# Altium footprint library 29197.PcbLib: 67 footprints (part 3 of 5)
Each footprint in its own frame and in the unit in brackets; x right, y up, seen from the top. Pads: shape width x height; smd on the part's side, far side on the other; paste and mask are expansions set on the pad; w line width, h text height; cw(c..) or ccw(c..) is an arc to the next point about the centre after c.
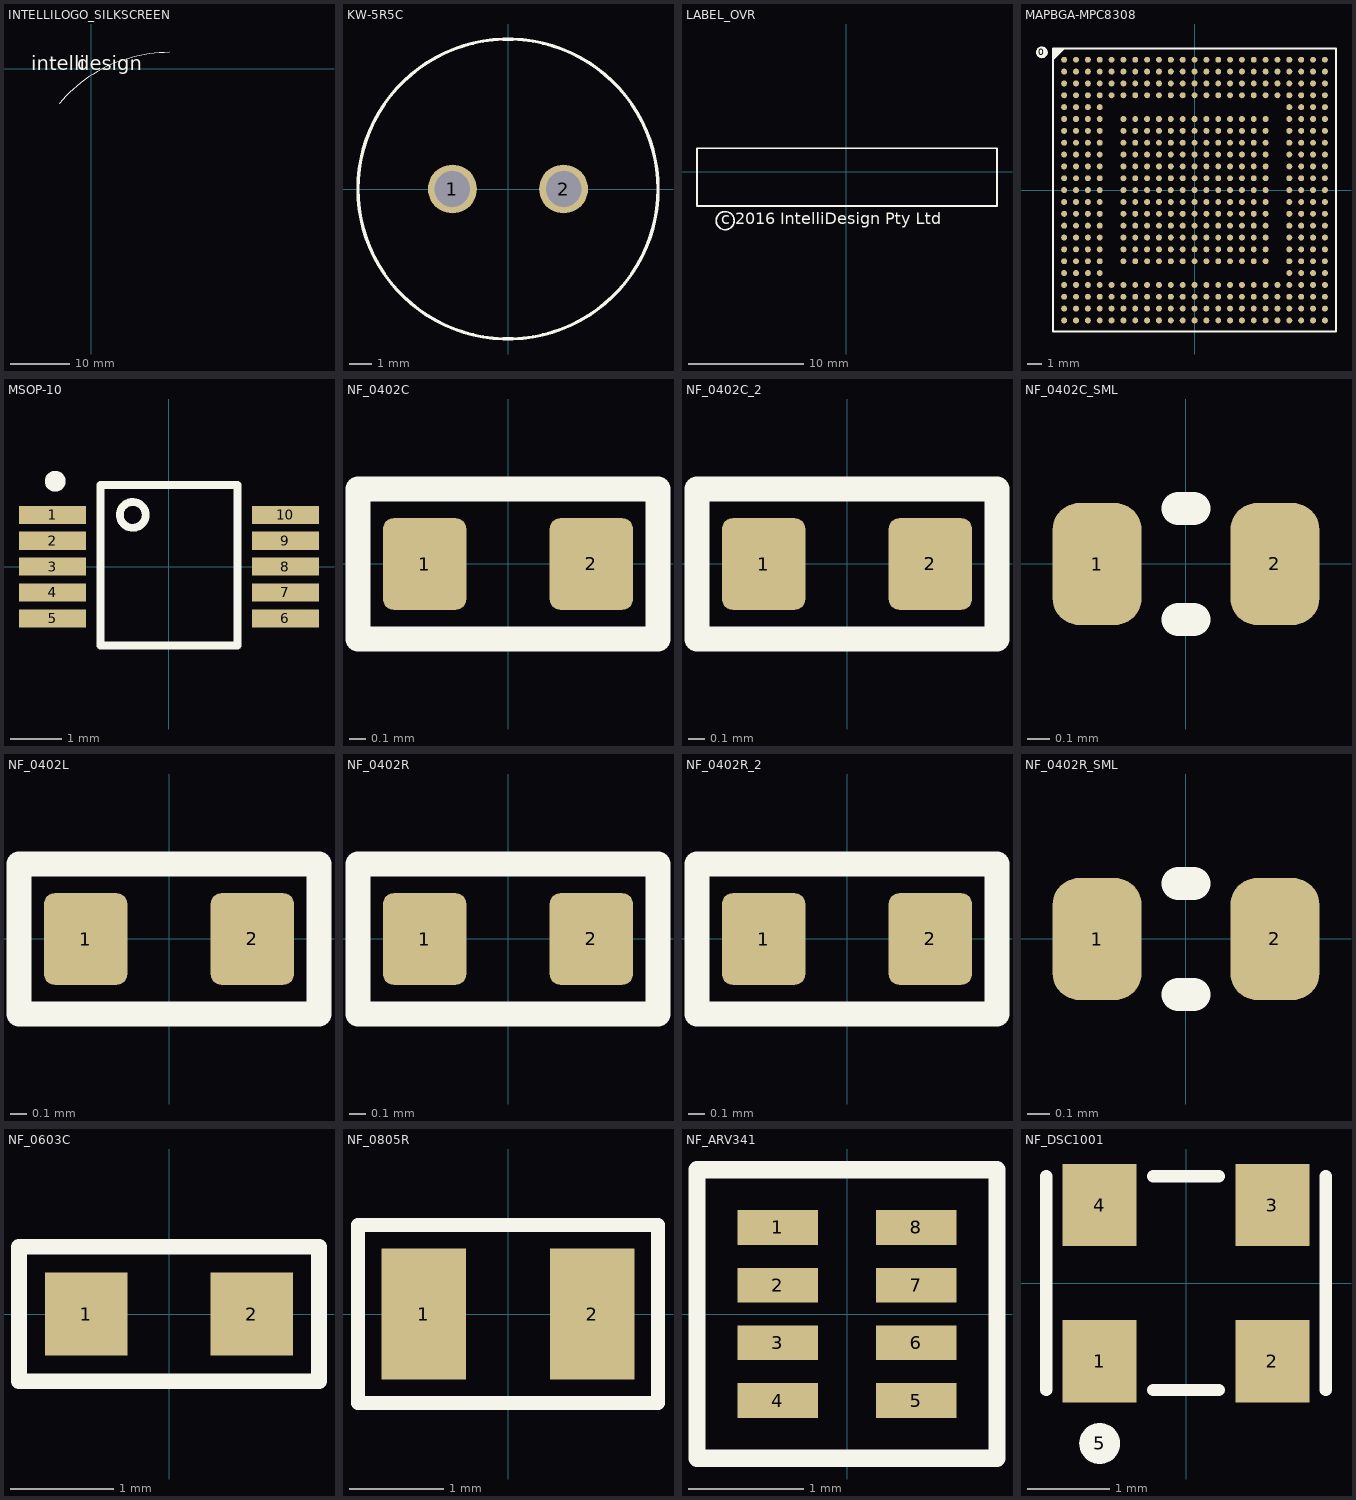
[diagram p2: the footprints below, top view; thin cyan lines are the x and y axes]

## INTELLILOGO_SILKSCREEN [mm]
height 0.6
Top Overlay:
  lines w0.2: -5.363,-5.869 cw(c13.022,-21.296) 13.022,2.704
  text "design" at -2.353,-1.121 h4.05
  text "intelli" at -10.05,-1.11 h4.05

## KW-5R5C [mm]
height 2.438
pads (2):
  round 2.2 hole 1.6: 1(-2.5,0) 2(2.5,0)
Top Overlay:
  circle w0.15: c0,0 r6.75
3D body: height 8.35, standoff 0.06, extent -6.697,-6.736 6.75,6.737
3D body: height 8.36, standoff 0.05, extent -5.953,-5.988 6,5.988
3D body: height 8.34, standoff 0.07, extent -5.178,-5.988 6.775,5.988
3D body: height 0, standoff -6.1, extent 1.855,-0.648 3.15,0.649
3D body: height 0, standoff -6.1, extent -3.145,-0.649 -1.85,0.649

## LABEL_OVR [mm] "Intellidesign label position (2015 copyright) on silkscreen"
height 0.25
Top Overlay:
  circle w0.15: c-10.487,-4.227 r0.784
  lines w0.15: -12.928,-2.952 13.072,-2.952 13.072,2.048 -12.928,2.048 -12.928,-2.952
  text "c 2016 IntelliDesign Pty Ltd" at -10.828,-4.552 h1
  text ".Comment" at -3.028,-1.452 h2

## MAPBGA-MPC8308 [mm]
height 2.438
pads (474):
  round 0.8 on Top Overlay paste-1 mask+0.5: 0(-10.3,9.3)
  round 0.4 smd mask+0.062: A1(-8.8,8.8) A2(-8,8.8) A3(-7.2,8.8) A4(-6.4,8.8) A5(-5.6,8.8) A6(-4.8,8.8) A7(-4,8.8) A8(-3.2,8.8) A9(-2.4,8.8) A10(-1.6,8.8) A11(-0.8,8.8) A12(0,8.8) A13(0.8,8.8) A14(1.6,8.8) A15(2.4,8.8) A16(3.2,8.8) A17(4,8.8) A18(4.8,8.8) A19(5.6,8.8) A20(6.4,8.8) A21(7.2,8.8) A22(8,8.8) A23(8.8,8.8) AA1(-8.8,-7.2) AA2(-8,-7.2) AA3(-7.2,-7.2) AA4(-6.4,-7.2) AA5(-5.6,-7.2) AA6(-4.8,-7.2) AA7(-4,-7.2) AA8(-3.2,-7.2) AA9(-2.4,-7.2) AA10(-1.6,-7.2) AA11(-0.8,-7.2) AA12(0,-7.2) AA13(0.8,-7.2) AA14(1.6,-7.2) AA15(2.4,-7.2) AA16(3.2,-7.2) AA17(4,-7.2) AA18(4.8,-7.2) AA19(5.6,-7.2) AA20(6.4,-7.2) AA21(7.2,-7.2) AA22(8,-7.2) AA23(8.8,-7.2) AB1(-8.8,-8) AB2(-8,-8) AB3(-7.2,-8) AB4(-6.4,-8) AB5(-5.6,-8) AB6(-4.8,-8) AB7(-4,-8) AB8(-3.2,-8) AB9(-2.4,-8) AB10(-1.6,-8) AB11(-0.8,-8) AB12(0,-8) AB13(0.8,-8) AB14(1.6,-8) AB15(2.4,-8) AB16(3.2,-8) AB17(4,-8) AB18(4.8,-8) AB19(5.6,-8) AB20(6.4,-8) AB21(7.2,-8) AB22(8,-8) AB23(8.8,-8) AC1(-8.8,-8.8) AC2(-8,-8.8) AC3(-7.2,-8.8) AC4(-6.4,-8.8) AC5(-5.6,-8.8) AC6(-4.8,-8.8) AC7(-4,-8.8) AC8(-3.2,-8.8) AC9(-2.4,-8.8) AC10(-1.6,-8.8) AC11(-0.8,-8.8) AC12(0,-8.8) AC13(0.8,-8.8) AC14(1.6,-8.8) AC15(2.4,-8.8) AC16(3.2,-8.8) AC17(4,-8.8) AC18(4.8,-8.8) AC19(5.6,-8.8) AC20(6.4,-8.8) AC21(7.2,-8.8) AC22(8,-8.8) AC23(8.8,-8.8) B1(-8.8,8) B2(-8,8) B3(-7.2,8) B4(-6.4,8) B5(-5.6,8) B6(-4.8,8) B7(-4,8) B8(-3.2,8) B9(-2.4,8) B10(-1.6,8) B11(-0.8,8) B12(0,8) B13(0.8,8) B14(1.6,8) B15(2.4,8) B16(3.2,8) B17(4,8) B18(4.8,8) B19(5.6,8) B20(6.4,8) B21(7.2,8) B22(8,8) B23(8.8,8) C1(-8.8,7.2) C2(-8,7.2) C3(-7.2,7.2) C4(-6.4,7.2) C5(-5.6,7.2) C6(-4.8,7.2) C7(-4,7.2) C8(-3.2,7.2) C9(-2.4,7.2) C10(-1.6,7.2) C11(-0.8,7.2) C12(0,7.2) C13(0.8,7.2) C14(1.6,7.2) C15(2.4,7.2) C16(3.2,7.2) C17(4,7.2) C18(4.8,7.2) C19(5.6,7.2) C20(6.4,7.2) C21(7.2,7.2) C22(8,7.2) C23(8.8,7.2) D1(-8.8,6.4) D2(-8,6.4) D3(-7.2,6.4) D4(-6.4,6.4) D5(-5.6,6.4) D6(-4.8,6.4) D7(-4,6.4) D8(-3.2,6.4) D9(-2.4,6.4) D10(-1.6,6.4) D11(-0.8,6.4) D12(0,6.4) D13(0.8,6.4) D14(1.6,6.4) D15(2.4,6.4) D16(3.2,6.4) D17(4,6.4) D18(4.8,6.4) D19(5.6,6.4) D20(6.4,6.4) D21(7.2,6.4) D22(8,6.4) D23(8.8,6.4) E1(-8.8,5.6) E2(-8,5.6) E3(-7.2,5.6) E4(-6.4,5.6) E20(6.4,5.6) E21(7.2,5.6) E22(8,5.6) E23(8.8,5.6) F1(-8.8,4.8) F2(-8,4.8) F3(-7.2,4.8) F4(-6.4,4.8) F6(-4.8,4.8) F7(-4,4.8) F8(-3.2,4.8) F9(-2.4,4.8) F10(-1.6,4.8) F11(-0.8,4.8) F12(0,4.8) F13(0.8,4.8) F14(1.6,4.8) F15(2.4,4.8) F16(3.2,4.8) F17(4,4.8) F18(4.8,4.8) F20(6.4,4.8) F21(7.2,4.8) F22(8,4.8) F23(8.8,4.8) G1(-8.8,4) G2(-8,4) G3(-7.2,4) G4(-6.4,4) G6(-4.8,4) G7(-4,4) G8(-3.2,4) G9(-2.4,4) G10(-1.6,4) G11(-0.8,4) G12(0,4) G13(0.8,4) G14(1.6,4) G15(2.4,4) G16(3.2,4) G17(4,4) G18(4.8,4) G20(6.4,4) G21(7.2,4) G22(8,4) G23(8.8,4) H1(-8.8,3.2) H2(-8,3.2) H3(-7.2,3.2) H4(-6.4,3.2) H6(-4.8,3.2) H7(-4,3.2) H8(-3.2,3.2) H9(-2.4,3.2) H10(-1.6,3.2) H11(-0.8,3.2) H12(0,3.2) H13(0.8,3.2) H14(1.6,3.2) H15(2.4,3.2) H16(3.2,3.2) H17(4,3.2) H18(4.8,3.2) H20(6.4,3.2) H21(7.2,3.2) H22(8,3.2) H23(8.8,3.2) J1(-8.8,2.4) J2(-8,2.4) J3(-7.2,2.4) J4(-6.4,2.4) J6(-4.8,2.4) J7(-4,2.4) J8(-3.2,2.4) J9(-2.4,2.4) J10(-1.6,2.4) J11(-0.8,2.4) J12(0,2.4) J13(0.8,2.4) J14(1.6,2.4) J15(2.4,2.4) J16(3.2,2.4) J17(4,2.4) J18(4.8,2.4) J20(6.4,2.4) J21(7.2,2.4) J22(8,2.4) J23(8.8,2.4) K1(-8.8,1.6) K2(-8,1.6) K3(-7.2,1.6) K4(-6.4,1.6) K6(-4.8,1.6) K7(-4,1.6) K8(-3.2,1.6) K9(-2.4,1.6) K10(-1.6,1.6) K11(-0.8,1.6) K12(0,1.6) K13(0.8,1.6) K14(1.6,1.6) K15(2.4,1.6) K16(3.2,1.6) K17(4,1.6) K18(4.8,1.6) K20(6.4,1.6) K21(7.2,1.6) K22(8,1.6) K23(8.8,1.6) L1(-8.8,0.8) L2(-8,0.8) L3(-7.2,0.8) L4(-6.4,0.8) L6(-4.8,0.8) L7(-4,0.8) L8(-3.2,0.8) L9(-2.4,0.8) L10(-1.6,0.8) L11(-0.8,0.8) L12(0,0.8) L13(0.8,0.8) L14(1.6,0.8) L15(2.4,0.8) L16(3.2,0.8) L17(4,0.8) L18(4.8,0.8) L20(6.4,0.8) L21(7.2,0.8) L22(8,0.8) L23(8.8,0.8) M1(-8.8,0) M2(-8,0) M3(-7.2,0) M4(-6.4,0) M6(-4.8,0) M7(-4,0) M8(-3.2,0) M9(-2.4,0) M10(-1.6,0) M11(-0.8,0) M12(0,0) M13(0.8,0) M14(1.6,0) M15(2.4,0) M16(3.2,0) M17(4,0) M18(4.8,0) M20(6.4,0) M21(7.2,0) M22(8,0) M23(8.8,0) N1(-8.8,-0.8) N2(-8,-0.8) N3(-7.2,-0.8) N4(-6.4,-0.8) N6(-4.8,-0.8) N7(-4,-0.8) N8(-3.2,-0.8) N9(-2.4,-0.8) N10(-1.6,-0.8) N11(-0.8,-0.8) N12(0,-0.8) N13(0.8,-0.8) N14(1.6,-0.8) N15(2.4,-0.8) N16(3.2,-0.8) N17(4,-0.8) N18(4.8,-0.8) N20(6.4,-0.8) N21(7.2,-0.8) N22(8,-0.8) N23(8.8,-0.8) P1(-8.8,-1.6) P2(-8,-1.6) P3(-7.2,-1.6) P4(-6.4,-1.6) P6(-4.8,-1.6) P7(-4,-1.6) P8(-3.2,-1.6) P9(-2.4,-1.6) P10(-1.6,-1.6) P11(-0.8,-1.6) P12(0,-1.6) P13(0.8,-1.6) P14(1.6,-1.6) P15(2.4,-1.6) P16(3.2,-1.6) P17(4,-1.6) P18(4.8,-1.6) P20(6.4,-1.6) P21(7.2,-1.6) P22(8,-1.6) P23(8.8,-1.6) R1(-8.8,-2.4) R2(-8,-2.4) R3(-7.2,-2.4) R4(-6.4,-2.4) R6(-4.8,-2.4) R7(-4,-2.4) R8(-3.2,-2.4) R9(-2.4,-2.4) R10(-1.6,-2.4) R11(-0.8,-2.4) R12(0,-2.4) R13(0.8,-2.4) R14(1.6,-2.4) R15(2.4,-2.4) R16(3.2,-2.4) R17(4,-2.4) R18(4.8,-2.4) R20(6.4,-2.4) R21(7.2,-2.4) R22(8,-2.4) R23(8.8,-2.4) T1(-8.8,-3.2) T2(-8,-3.2) T3(-7.2,-3.2) T4(-6.4,-3.2) T6(-4.8,-3.2) T7(-4,-3.2) T8(-3.2,-3.2) T9(-2.4,-3.2) T10(-1.6,-3.2) T11(-0.8,-3.2) T12(0,-3.2) T13(0.8,-3.2) T14(1.6,-3.2) T15(2.4,-3.2) T16(3.2,-3.2) T17(4,-3.2) T18(4.8,-3.2) T20(6.4,-3.2) T21(7.2,-3.2) T22(8,-3.2) T23(8.8,-3.2) U1(-8.8,-4) U2(-8,-4) U3(-7.2,-4) U4(-6.4,-4) U6(-4.8,-4) U7(-4,-4) U8(-3.2,-4) U9(-2.4,-4) U10(-1.6,-4) U11(-0.8,-4) U12(0,-4) U13(0.8,-4) U14(1.6,-4) U15(2.4,-4) U16(3.2,-4) U17(4,-4) U18(4.8,-4) U20(6.4,-4) U21(7.2,-4) U22(8,-4) U23(8.8,-4) V1(-8.8,-4.8) V2(-8,-4.8) V3(-7.2,-4.8) V4(-6.4,-4.8) V6(-4.8,-4.8) V7(-4,-4.8) V8(-3.2,-4.8) V9(-2.4,-4.8) V10(-1.6,-4.8) V11(-0.8,-4.8) V12(0,-4.8) V13(0.8,-4.8) V14(1.6,-4.8) V15(2.4,-4.8) V16(3.2,-4.8) V17(4,-4.8) V18(4.8,-4.8) V20(6.4,-4.8) V21(7.2,-4.8) V22(8,-4.8) V23(8.8,-4.8) W1(-8.8,-5.6) W2(-8,-5.6) W3(-7.2,-5.6) W4(-6.4,-5.6) W20(6.4,-5.6) W21(7.2,-5.6) W22(8,-5.6) W23(8.8,-5.6) Y1(-8.8,-6.4) Y2(-8,-6.4) Y3(-7.2,-6.4) Y4(-6.4,-6.4) Y5(-5.6,-6.4) Y6(-4.8,-6.4) Y7(-4,-6.4) Y8(-3.2,-6.4) Y9(-2.4,-6.4) Y10(-1.6,-6.4) Y11(-0.8,-6.4) Y12(0,-6.4) Y13(0.8,-6.4) Y14(1.6,-6.4) Y15(2.4,-6.4) Y16(3.2,-6.4) Y17(4,-6.4) Y18(4.8,-6.4) Y19(5.6,-6.4) Y20(6.4,-6.4) Y21(7.2,-6.4) Y22(8,-6.4) Y23(8.8,-6.4)
Top Overlay:
  region: -9.55,9.55 -9.55,8.75 -8.75,9.55
  lines w0.15: -9.55,-9.55 9.55,-9.55 9.55,9.55 -9.55,9.55 -9.55,-9.55
3D body: height 1.5, standoff 0.2, extent -9.5,-9.5 9.5,9.5

## MSOP-10 [mm]
height 2.438
pads (10):
  rect 1.3x0.35 smd paste-0.025: 1(-2.25,1) 2(-2.25,0.5) 3(-2.25,0) 4(-2.25,-0.5) 5(-2.25,-1) 6(2.25,-1) 7(2.25,-0.5) 8(2.25,0) 9(2.25,0.5) 10(2.25,1)
Top Overlay:
  circle w0.15: c-0.7,1 r0.25
  circle w0.2: c-2.2,1.65 r0.1
  lines w0.15: -1.325,-1.525 -1.325,1.575 1.325,1.575 1.325,-1.525 -1.325,-1.525
3D body: height 1.2, standoff 0.2, extent -1.325,-1.525 1.325,1.575

## NF_0402C [mm] "Chip Capacitor, 2-Leads, Body 1.0x0.5mm, IPC Medium Density"
height 0.6
pads (2):
  rrect25% 0.5x0.55 smd paste-2: 1(-0.5,0) 2(0.5,0)
Top Overlay:
  lines w0.15: -0.9,-0.45 0.9,-0.45 0.9,0.45 -0.9,0.45 -0.9,-0.45
3D body: height 0.5, standoff 0, extent -0.25,-0.25 0.25,0.25
3D body: height 0.5, standoff 0, extent 0.25,-0.25 0.5,0.25
3D body: height 0.5, standoff 0, extent -0.5,-0.25 -0.25,0.25

## NF_0402C_2 [mm]
pads (2):
  rrect25% 0.5x0.55 smd paste-2: 1(-0.5,0) 2(0.5,0)
Top Overlay:
  lines w0.15: -0.9,-0.45 0.9,-0.45 0.9,0.45 -0.9,0.45 -0.9,-0.45
3D body: height 0.5, standoff 0, extent -0.25,-0.25 0.25,0.25
3D body: height 0.5, standoff 0, extent 0.25,-0.25 0.5,0.25
3D body: height 0.5, standoff 0, extent -0.5,-0.25 -0.25,0.25

## NF_0402C_SML [mm] "Chip Capacitor, 2-Leads, Body 1.0x0.5mm, IPC Medium Density"
height 0.6
pads (2):
  rrect60% 0.4x0.55 smd paste-2: 1(-0.4,0) 2(0.4,0)
Top Overlay:
  lines w0.15: -0.035,-0.25 0.035,-0.25 ; -0.035,0.25 0.035,0.25
3D body: height 0.5, standoff 0, extent -0.25,-0.25 0.25,0.25
3D body: height 0.5, standoff 0, extent 0.15,-0.25 0.4,0.25
3D body: height 0.5, standoff 0, extent -0.4,-0.25 -0.15,0.25

## NF_0402L [mm] "Chip Capacitor, 2-Leads, Body 1.0x0.5mm, IPC Medium Density"
height 0.6
pads (2):
  rrect25% 0.5x0.55 smd paste-2: 1(-0.5,0) 2(0.5,0)
Top Overlay:
  lines w0.15: -0.9,-0.45 -0.9,0.45 0.9,0.45 0.9,-0.45 -0.9,-0.45
3D body: height 0.5, standoff 0, extent -0.5,-0.25 -0.25,0.25
3D body: height 0.5, standoff 0, extent 0.25,-0.25 0.5,0.25
3D body: height 0.48, standoff 0.03, extent -0.25,-0.225 0.25,0.225

## NF_0402R [mm] "Chip Capacitor, 2-Leads, Body 1.0x0.5mm, IPC Medium Density"
height 0.6
pads (2):
  rrect25% 0.5x0.55 smd paste-2: 1(-0.5,0) 2(0.5,0)
Top Overlay:
  lines w0.15: -0.9,-0.45 -0.9,0.45 0.9,0.45 0.9,-0.45 -0.9,-0.45
3D body: height 0.25, standoff 0.23, extent -0.225,-0.225 0.225,0.225
3D body: height 0.25, standoff 0, extent -0.5,-0.25 -0.25,0.25
3D body: height 0.25, standoff 0, extent 0.25,-0.25 0.5,0.25
3D body: height 0.23, standoff 0.03, extent -0.25,-0.25 0.25,0.25

## NF_0402R_2 [mm]
pads (2):
  rrect25% 0.5x0.55 smd paste-2: 1(-0.5,0) 2(0.5,0)
Top Overlay:
  lines w0.15: -0.9,-0.45 0.9,-0.45 0.9,0.45 -0.9,0.45 -0.9,-0.45
3D body: height 0.23, standoff 0.03, extent -0.25,-0.25 0.25,0.25
3D body: height 0.25, standoff 0, extent 0.25,-0.25 0.5,0.25
3D body: height 0.25, standoff 0, extent -0.5,-0.25 -0.25,0.25
3D body: height 0.25, standoff 0.23, extent -0.225,-0.225 0.225,0.225

## NF_0402R_SML [mm] "Chip Capacitor, 2-Leads, Body 1.0x0.5mm, IPC Medium Density"
height 0.6
pads (2):
  rrect60% 0.4x0.55 smd paste-2: 1(-0.4,0) 2(0.4,0)
Top Overlay:
  lines w0.15: -0.035,-0.25 0.035,-0.25 ; -0.035,0.25 0.035,0.25
3D body: height 0.23, standoff 0.03, extent -0.25,-0.25 0.25,0.25
3D body: height 0.25, standoff 0, extent 0.25,-0.25 0.5,0.25
3D body: height 0.25, standoff 0, extent -0.5,-0.25 -0.25,0.25
3D body: height 0.25, standoff 0.23, extent -0.225,-0.225 0.225,0.225

## NF_0603C [mm]
pads (2):
  rect 0.8x0.8 smd paste-10: 1(-0.8,0) 2(0.8,0)
Top Overlay:
  lines w0.15: -1.45,-0.65 1.45,-0.65 1.45,0.65 -1.45,0.65 -1.45,-0.65
3D body "0603C.STEP": height 1.02, standoff 0, extent -0.8,-0.405 0.8,0.405

## NF_0805R [mm]
pads (2):
  rect 0.9x1.4 smd paste-10: 1(-0.9,0) 2(0.9,0)
Top Overlay:
  lines w0.15: -1.6,-0.95 -1.6,0.95 1.6,0.95 1.6,-0.95 -1.6,-0.95

## NF_ARV341 [mm]
pads (8):
  rect 0.7x0.3 smd paste-2: 1(-0.6,0.75) 2(-0.6,0.25) 3(-0.6,-0.25) 4(-0.6,-0.75) 5(0.6,-0.75) 6(0.6,-0.25) 7(0.6,0.25) 8(0.6,0.75)
Top Overlay:
  lines w0.15: -1.3,-1.25 1.3,-1.25 1.3,1.25 -1.3,1.25 -1.3,-1.25
3D body: height 0.4, standoff 0, extent -0.5,0.6 -0.35,1
3D body: height 0.4, standoff 0, extent -0.5,0.1 -0.35,0.4
3D body: height 0.4, standoff 0, extent -0.5,-0.4 -0.35,-0.1
3D body: height 0.4, standoff 0, extent -0.5,-1 -0.35,-0.6
3D body: height 0.4, standoff 0, extent 0.35,-1 0.5,-0.6
3D body: height 0.4, standoff 0, extent 0.35,0.1 0.5,0.4
3D body: height 0.4, standoff 0, extent 0.35,0.6 0.5,1
3D body: height 0.4, standoff 0, extent 0.35,-0.4 0.5,-0.1
3D body: height 0.4, standoff 0, extent -0.35,-1 0.35,1

## NF_DSC1001 [mm]
pads (5):
  rect 0.9x1 smd paste-2: 1(-1.05,-0.95) 2(1.05,-0.95) 3(1.05,0.95) 4(-1.05,0.95)
  round 0.5 on Top Overlay: 5(-1.05,-1.95)
Top Overlay:
  lines w0.15: -1.7,-1.3 -1.7,1.3 ; -0.4,-1.3 0.4,-1.3 ; -0.4,1.3 0.4,1.3 ; 1.7,-1.3 1.7,1.3
3D body: height 0.85, standoff 0.1, extent -1.5,-1.1 1.5,1.1
3D body: height 0.7, standoff 0.05, extent -1.65,-1.25 1.65,1.25